# Altium schematic symbol library IPD95R450P7.SchLib: 1 symbol
Pins are listed as number, name and electrical type; pins without a type are passive.

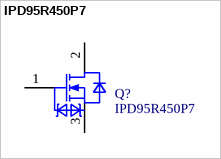
[diagram p0: symbol IPD95R450P7]

## IPD95R450P7
designator Q?
Insulated-Gate Field-Effect Transistor (IGFET), N-Channel, Enhancement, Body Diode, ESD Diode Gate/Source, Pin 1 Gate, 2 Drain, 3 Source, 3 Pins; Manufacturer: Infineon Technologies; PackageReference: PG-TO220-3; ManufacturerPartNumber: IPD95R450P7
footprint TO229P994X256-3N-1 (TO,2.29mm pitch;2 pin,9.94mm L X 6.095mm W X 2.56mm H body)
pins: 1 GATE, 2 DRAIN, 3 SOURCE